# Altium integrated library L78L06ACUTR.IntLib: 1 symbol
Pins are listed as number, name and electrical type; pins without a type are passive.

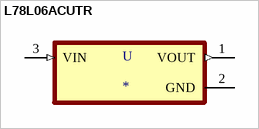
[diagram p0: symbol L78L06ACUTR]

## L78L06ACUTR
designator U
Linear Voltage Regulator IC 1 Output 100mA SOT-89-3; MP: L78L06ACUTR; MF: STMicroelectronics; Package: SOT-89-3 STMicroelectronics; Value: *; SnapEDA_Link: https://www.snapeda.com/parts/L78L06ACUTR/STMicroelectronics/view-part/1221968/?ref=snap; Availability: Unavailable; Price: None; DigiKey-Purchase-URL: https://snapeda.com/shop?store=DigiKey&id=1221968
footprint VREG_L78L12ABUTR
pins: 1 VOUT (out), 2 GND (power), 3 VIN (in)